# EAGLE library part A4919 (library user_ic)
アレグロ：ブラシレスモータドライバ用ゲートドライバIC 純粋な両サイドNchハーフブリッジ3つを駆動するゲートドライバIC digikey：通販コード[620-1893-1-ND] 単価：353円
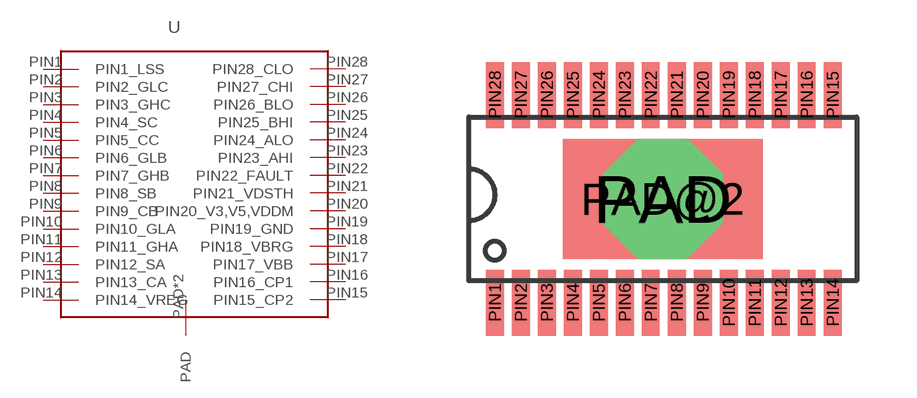
[diagram p22: symbol with the pads of TSSOP_28P_ALLEGRO_E; footprint TSSOP_28P_ALLEGRO_E]

Designator prefix -

## A4919  [TSSOP_28P_ALLEGRO_E]
PAD  PAD
PAD@2  PAD
PIN1  PIN1_LSS
PIN2  PIN2_GLC
PIN3  PIN3_GHC
PIN4  PIN4_SC
PIN5  PIN5_CC
PIN6  PIN6_GLB
PIN7  PIN7_GHB
PIN8  PIN8_SB
PIN9  PIN9_CB
PIN10  PIN10_GLA
PIN11  PIN11_GHA
PIN12  PIN12_SA
PIN13  PIN13_CA
PIN14  PIN14_VREG
PIN15  PIN15_CP2
PIN16  PIN16_CP1
PIN17  PIN17_VBB
PIN18  PIN18_VBRG
PIN19  PIN19_GND
PIN20  PIN20_V3,V5,VDDM
PIN21  PIN21_VDSTH
PIN22  PIN22_FAULT
PIN23  PIN23_AHI
PIN24  PIN24_ALO
PIN25  PIN25_BHI
PIN26  PIN26_BLO
PIN27  PIN27_CHI
PIN28  PIN28_CLO

## Footprint TSSOP_28P_ALLEGRO_E (pad centres in mm)
アレグロのゲートドライバ系のtssop28pinのフットプリント サーマルパッドがついていることに注意 サーマルパッドの半田付けができるようにした
smd 5 x 3: PAD 4.85,1.95
drill 2 octagon: PAD@2 4.85,1.95
smd 0.45 x 1.65: PIN1 0.65,-0.65; PIN2 1.3,-0.65; PIN3 1.95,-0.65; PIN4 2.6,-0.65; PIN5 3.25,-0.65; PIN6 3.9,-0.65; PIN7 4.55,-0.65; PIN8 5.2,-0.65; PIN9 5.85,-0.65; PIN10 6.5,-0.65; PIN11 7.15,-0.65; PIN12 7.8,-0.65; PIN13 8.45,-0.65; PIN14 9.1,-0.65; PIN15 9.1,4.55; PIN16 8.45,4.55; PIN17 7.8,4.55; PIN18 7.15,4.55; PIN19 6.5,4.55; PIN20 5.85,4.55; PIN21 5.2,4.55; PIN22 4.55,4.55; PIN23 3.9,4.55; PIN24 3.25,4.55; PIN25 2.6,4.55; PIN26 1.95,4.55; PIN27 1.3,4.55; PIN28 0.65,4.55